# Altium footprint library CNC3221_10_0100_00.PcbLib: 1 footprints
Each footprint in its own frame and in the unit in brackets; x right, y up, seen from the top. Pads: shape width x height; smd on the part's side, far side on the other; paste and mask are expansions set on the pad; w line width, h text height; cw(c..) or ccw(c..) is an arc to the next point about the centre after c.
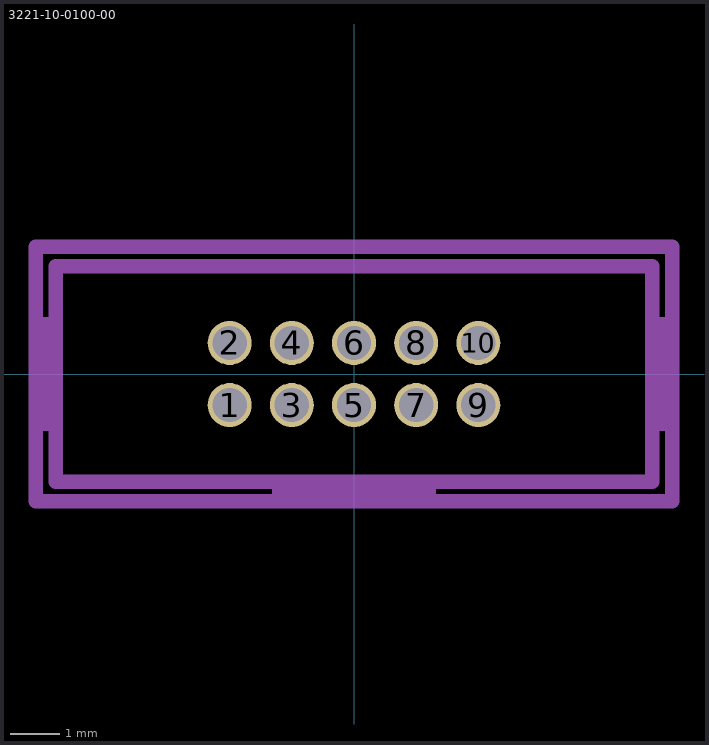
[diagram p0: the footprint, top view; thin cyan lines are the x and y axes]

## 3221-10-0100-00 [mm]
pads (10):
  round 0.9 hole 0.7: 1(-2.54,-0.635) 2(-2.54,0.635) 3(-1.27,-0.635) 4(-1.27,0.635) 5(0,-0.635) 6(0,0.635) 7(1.27,-0.635) 8(1.27,0.635) 9(2.54,-0.635) 10(2.54,0.635)
Mechanical 1:
  rectangle: 6.096,-1.016 6.5,1.016
  rectangle: -6.5,-1.016 -6.096,1.016
  rectangle: -1.524,-2.54 1.524,-2.2
  lines w0.3: -6.5,-1.016 -6.096,-1.016 -6.096,1.016 -6.5,1.016 ; -1.524,-2.54 -1.524,-2.2 1.524,-2.2 1.524,-2.54 ; 6.5,-1.016 6.096,-1.016 ; 6.5,1.016 6.096,1.016 ; 6.096,-1.016 6.096,-2.2 -6.096,-2.2 -6.096,2.2 6.096,2.2 6.096,1.016 ; 6.096,-1.016 6.096,1.016 ; -6.5,-2.6 0,-2.6 6.5,-2.6 6.5,2.6 -6.5,2.6 -6.5,-2.6